# Altium schematic symbol library 素材库.SCHLIB: 37 symbols
Pins are listed as number, name and electrical type; pins without a type are passive.

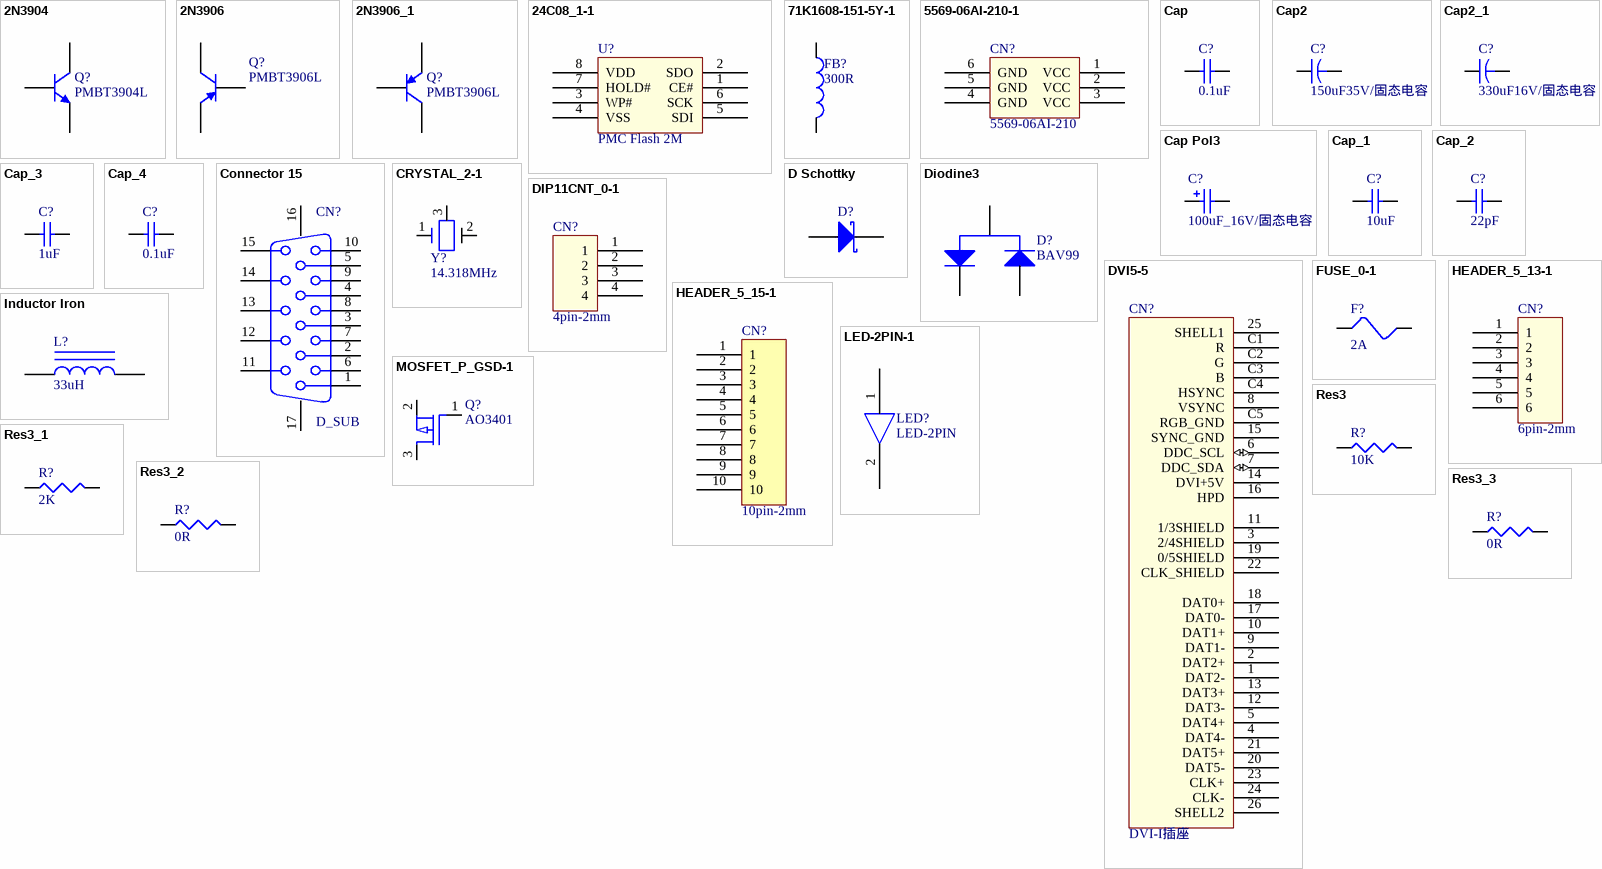
[diagram p0: symbols 2N3904 to Res3_3]

## 2N3904
designator Q?, comment PMBT3904L
NPN General Purpose Amplifier; Published: 8-Jun-2000; LatestRevisionDate: 15-Jan-2003; LatestRevisionNote: PCB Footprint 'BCY-W3/D4.7' replaced; DatasheetVersion: 1997; PackageVersion: Sep-1998; PackageReference: TO-92A; Publisher: Altium Limited; Code_JEDEC: TO-92A; ComponentLink1Description: Manufacturer Link; ComponentLink1URL: http://www.fairchildsemi.com/; ComponentLink2Description: Datasheet; ComponentLink2URL: http://www.fairchildsemi.com/ds/2N%2F2N3904.pdf
footprint Q-SOT23 (Footprint not found)
pins: 1 E, 2 B, 3 C

## 2N3906
designator Q?, comment PMBT3906L
PNP General Purpose Amplifier; Published: 8-Jun-2000; LatestRevisionDate: 15-Jan-2003; LatestRevisionNote: PCB Footprint 'BCY-W3/D4.7' replaced; DatasheetVersion: 1997; PackageVersion: Sep-1998; PackageReference: TO-92A; Publisher: Altium Limited; Code_JEDEC: TO-92A; ComponentLink1Description: Manufacturer Link; ComponentLink1URL: http://www.fairchildsemi.com/; ComponentLink2Description: Datasheet; ComponentLink2URL: http://www.fairchildsemi.com/ds/2N%2F2N3906.pdf
footprint Q-SOT23 (Footprint not found)
pins: 1 E, 2 B, 3 C

## 2N3906_1
designator Q?, comment PMBT3906L
PNP General Purpose Amplifier; Published: 8-Jun-2000; LatestRevisionDate: 15-Jan-2003; LatestRevisionNote: PCB Footprint 'BCY-W3/D4.7' replaced; DatasheetVersion: 1997; PackageVersion: Sep-1998; PackageReference: TO-92A; Publisher: Altium Limited; Code_JEDEC: TO-92A; ComponentLink1Description: Manufacturer Link; ComponentLink1URL: http://www.fairchildsemi.com/; ComponentLink2Description: Datasheet; ComponentLink2URL: http://www.fairchildsemi.com/ds/2N%2F2N3906.pdf
footprint Q-SOT23 (Footprint not found)
pins: 1 E, 2 B, 3 C

## 24C08_1-1
designator U?, comment PMC Flash 2M
footprint U-SOP8/1.3 (Footprint not found)
pins: 1 CE#, 2 SDO, 3 WP#, 4 VSS (power), 5 SDI, 6 SCK, 7 HOLD#, 8 VDD (power)

## 71K1608-151-5Y-1
designator FB?, comment 300R
footprint R-0603
pins: 1, 2

## 5569-06AI-210-1
designator CN?, comment 5569-06AI-210
footprint JP-HW6X4.2X2 (Footprint not found)
pins: 1 VCC, 2 VCC, 3 VCC, 4 GND, 5 GND, 6 GND

## Cap
designator C?, comment 0.1uF
Capacitor; Published: 8-Jun-2000; LatestRevisionDate: 17-Jul-2002; LatestRevisionNote: Re-released for DXP Platform.; PackageReference: RAD-0.3; Publisher: Altium Limited
footprint C-0603
pins: 1, 2

## Cap2
designator C?, comment 150uF35V/固态电容
Capacitor; Published: 23-Sep-2002; PackageReference: CAPR5-4X5; Publisher: Altium Limited
footprint CE-D5.0 (Footprint not found)
pins: 1, 2

## Cap2_1
designator C?, comment 330uF16V/固态电容
Capacitor; Published: 23-Sep-2002; PackageReference: CAPR5-4X5; Publisher: Altium Limited
footprint CE-D3.6 (Footprint not found)
pins: 1, 2

## Cap Pol3
designator C?, comment 100uF_16V/固态电容
Polarized Capacitor (Surface Mount); Published: 8-Jun-2000; LatestRevisionDate: 29-May-2009; LatestRevisionNote: IPC-7351 Footprint Added.; PackageReference: C0805; Publisher: Altium Limited; PackageDescription: Chip Capacitor
footprint CE-D3.6 (Footprint not found)
pins: 1, 2
1 alternate drawing of the same symbol

## Cap_1
designator C?, comment 10uF
Capacitor; Published: 8-Jun-2000; LatestRevisionDate: 17-Jul-2002; LatestRevisionNote: Re-released for DXP Platform.; PackageReference: RAD-0.3; Publisher: Altium Limited
footprint C-0805 (Footprint not found)
pins: 1, 2

## Cap_2
designator C?, comment 22pF
Capacitor; Published: 8-Jun-2000; LatestRevisionDate: 17-Jul-2002; LatestRevisionNote: Re-released for DXP Platform.; PackageReference: RAD-0.3; Publisher: Altium Limited
footprint C-0603
pins: 1, 2

## Cap_3
designator C?, comment 1uF
Capacitor; Published: 8-Jun-2000; LatestRevisionDate: 17-Jul-2002; LatestRevisionNote: Re-released for DXP Platform.; PackageReference: RAD-0.3; Publisher: Altium Limited
footprint C-0603
pins: 1, 2

## Cap_4
designator C?, comment 0.1uF
Capacitor; Published: 8-Jun-2000; LatestRevisionDate: 17-Jul-2002; LatestRevisionNote: Re-released for DXP Platform.; PackageReference: RAD-0.3; Publisher: Altium Limited
footprint C-0603
pins: 1, 2

## Connector 15
designator CN?, comment D_SUB
footprint No footprint defined
footprint DSUB-W15 (Footprint not found)
pins: 1, 2, 3, 4, 5, 6, 7, 8, 9, 10, 11, 12, 13, 14, 15, 16 MH1, 17 MH2

## CRYSTAL_2-1
designator Y?, comment 14.318MHz
footprint Y-DH5 (Footprint not found)
pins: 1, 2, 3

## D Schottky
designator D?, comment 5.6V  (value not drawn)
Schottky Diode; Published: 8-Jun-2000; LatestRevisionDate: 17-Jul-2002; LatestRevisionNote: Re-released for DXP Platform.; PackageReference: SMB; Publisher: Altium Limited; Code_JEDEC: DO-214-AA
footprint DSO-C2/X2.3 (DO-214-AA/SMB; 2 C-Bend Leads; Body 5.3 x 3.6 mm, inc. leads (LxW))
simulation model SKYDIODE (Diode)
signal-integrity model D Schottky
footprint No footprint defined
footprint D-SOD323S (Footprint not found)
pins: 1 A, 2 K

## Diodine3
designator D?, comment BAV99
footprint No footprint defined
footprint Q-SOT23 (Footprint not found)
pins: 1 A2, 2 K1, 3 A1

## DIP11CNT_0-1
designator CN?, comment 4pin-2mm
footprint JP-HW4X2.0 (Footprint not found)
pins: 1, 2, 3, 4

## DVI5-5
designator CN?, comment DVI-I插座
footprint No footprint defined
footprint DVI-W24 (Footprint not found)
pins: 1 DAT2-, 2 DAT2+, 3 2/4SHIELD, 4 DAT4-, 5 DAT4+, 6 DDC_SCL (io), 7 DDC_SDA (io), 8 VSYNC, 9 DAT1-, 10 DAT1+, 11 1/3SHIELD, 12 DAT3-, 13 DAT3+, 14 DVI+5V, 15 SYNC_GND, 16 HPD, 17 DAT0-, 18 DAT0+, 19 0/5SHIELD, 20 DAT5-, 21 DAT5+, 22 CLK_SHIELD, 23 CLK+, 24 CLK-, 25 SHELL1, 26 SHELL2, C1 R, C2 G, C3 B, C4 HSYNC, C5 RGB_GND

## FUSE_0-1
designator F?, comment 2A
footprint R-1206 (Footprint not found)
pins: 1, 2

## HEADER_5_13-1
designator CN?, comment 6pin-2mm
footprint JP-HW6X2.0 (Footprint not found)
pins: 1, 2, 3, 4, 5, 6

## HEADER_5_15-1
designator CN?, comment 10pin-2mm
footprint JP-HW10X2.0 (Footprint not found)
pins: 1, 2, 3, 4, 5, 6, 7, 8, 9, 10

## Inductor Iron
designator L?, comment 33uH
Magnetic-Core Inductor; Published: 24-Mar-1999; LatestRevisionDate: 17-Jul-2002; LatestRevisionNote: Re-released for DXP Platform.; PackageReference: AXIAL-0.9; Publisher: Altium Limited
footprint AXIAL-0.9 (Axial Device, Thru-Hole; 2 Leads; 0.9 in Pin Spacing)
simulation model INDUCTOR (Inductor)
signal-integrity model Inductor Iron
footprint LC120-50-1.0 (Footprint not found)
pins: 1, 2

## LED-2PIN-1
designator LED?, comment LED-2PIN
footprint LED-H2X2.54 (Footprint not found)
pins: 1, 2

## MOSFET_P_GSD-1
designator Q?, comment AO3401
footprint Q-SOT23 (Footprint not found)
pins: 1 G, 2 S, 3 D

## Res3
designator R?, comment 10K
Resistor; Published: 8-Jun-2000; LatestRevisionDate: 29-May-2009; LatestRevisionNote: IPC-7351 Footprint Added.; PackageReference: J1-0603; Publisher: Altium Limited; PackageDescription: Chip Resistor
footprint R-0402 (Footprint not found)
pins: 1, 2

## Res3_1
designator R?, comment 2K
Resistor; Published: 8-Jun-2000; LatestRevisionDate: 29-May-2009; LatestRevisionNote: IPC-7351 Footprint Added.; PackageReference: J1-0603; Publisher: Altium Limited; PackageDescription: Chip Resistor
footprint R-0402
pins: 1, 2

## Res3_2
designator R?, comment 0R
Resistor; Published: 8-Jun-2000; LatestRevisionDate: 29-May-2009; LatestRevisionNote: IPC-7351 Footprint Added.; PackageReference: J1-0603; Publisher: Altium Limited; PackageDescription: Chip Resistor
signal-integrity model Res
footprint R-0805
pins: 1, 2

## Res3_3
designator R?, comment 0R
Resistor; Published: 8-Jun-2000; LatestRevisionDate: 29-May-2009; LatestRevisionNote: IPC-7351 Footprint Added.; PackageReference: J1-0603; Publisher: Altium Limited; PackageDescription: Chip Resistor
footprint R-1206 (Footprint not found)
pins: 1, 2

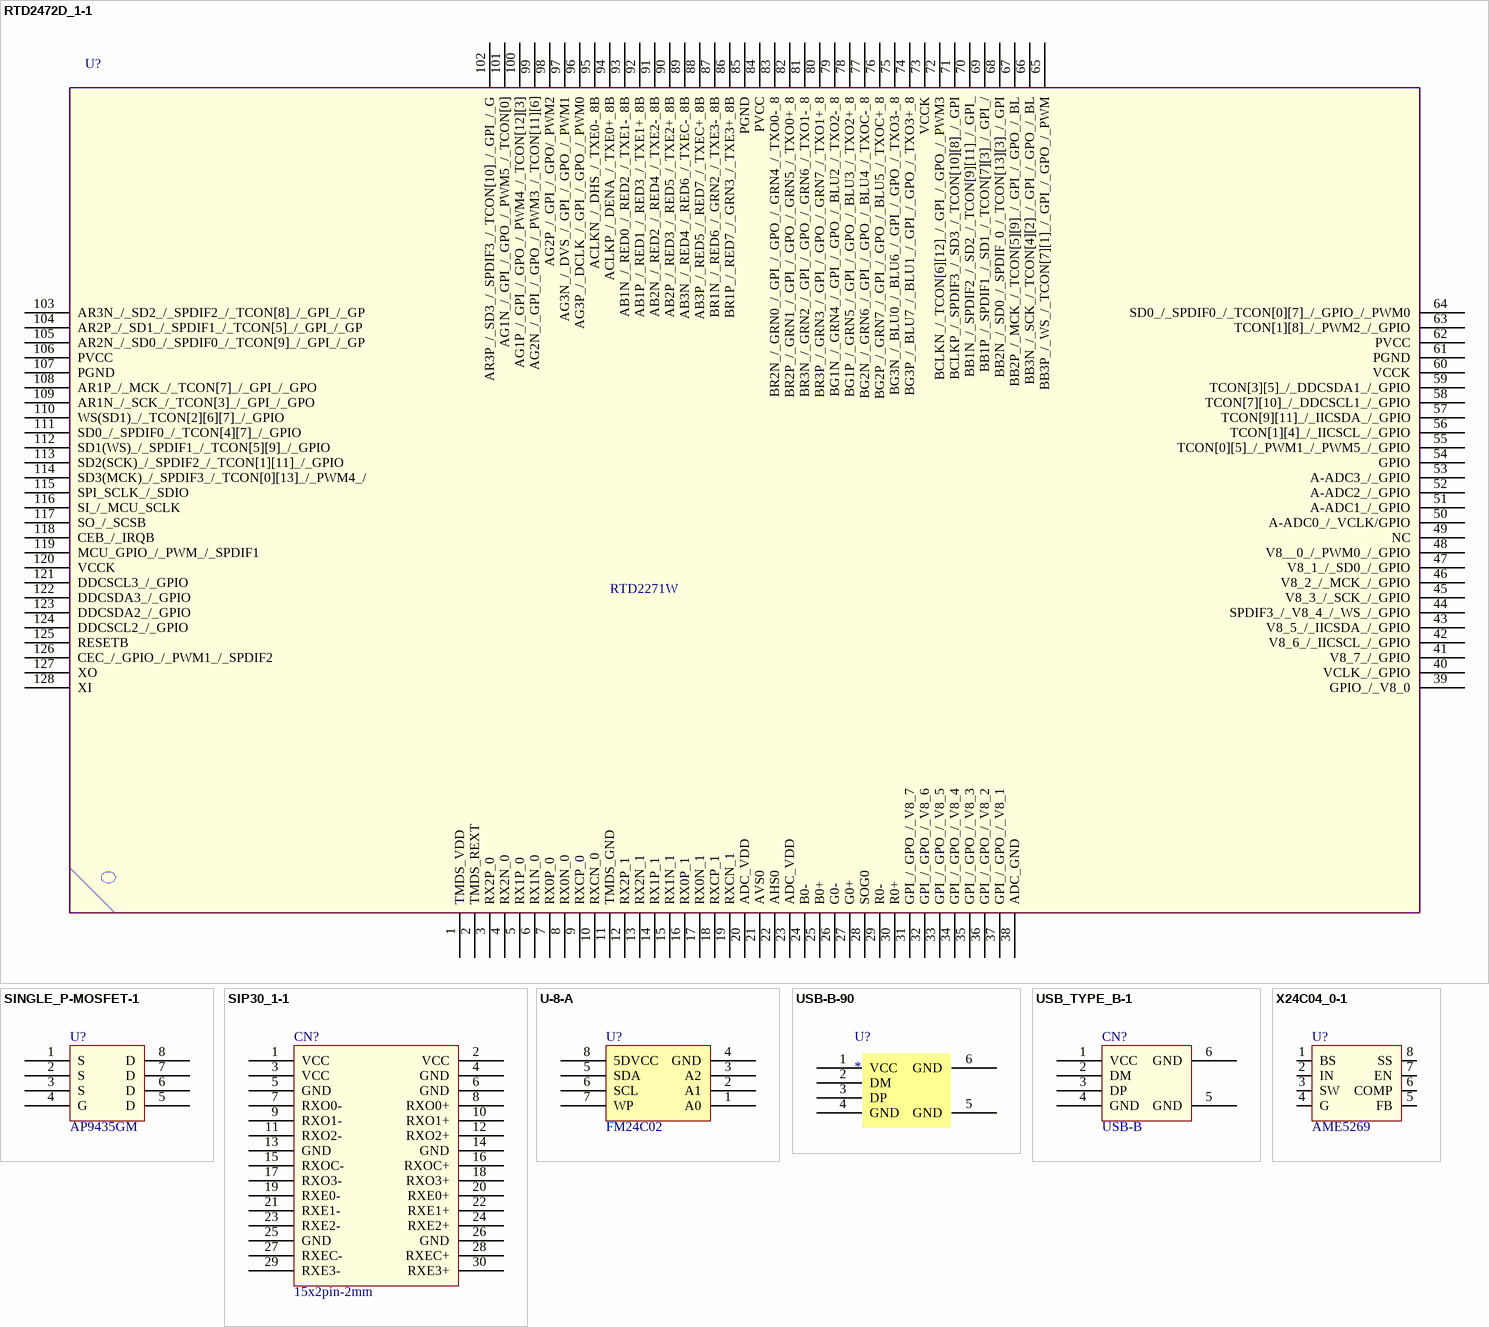
[diagram p1: symbols RTD2472D_1-1 to X24C04_0-1]

## RTD2472D_1-1
designator U?, comment RTD2271W
footprint U-QFP128/0.5 (Footprint not found)
pins: 1 TMDS_VDD (power), 2 TMDS_REXT, 3 RX2P_0, 4 RX2N_0, 5 RX1P_0, 6 RX1N_0, 7 RX0P_0, 8 RX0N_0, 9 RXCP_0, 10 RXCN_0, 11 TMDS_GND, 12 RX2P_1, 13 RX2N_1, 14 RX1P_1, 15 RX1N_1, 16 RX0P_1, 17 RX0N_1, 18 RXCP_1, 19 RXCN_1, 20 ADC_VDD (power), 21 AVS0, 22 AHS0, 23 ADC_VDD (power), 24 B0-, 25 B0+, 26 G0-, 27 G0+, 28 SOG0, 29 R0-, 30 R0+, 31 GPI_/_GPO_/_V8_7, 32 GPI_/_GPO_/_V8_6, 33 GPI_/_GPO_/_V8_5, 34 GPI_/_GPO_/_V8_4, 35 GPI_/_GPO_/_V8_3, 36 GPI_/_GPO_/_V8_2, 37 GPI_/_GPO_/_V8_1, 38 ADC_GND, 39 GPIO_/_V8_0, 40 VCLK_/_GPIO, 41 V8_7_/_GPIO, 42 V8_6_/_IICSCL_/_GPIO, 43 V8_5_/_IICSDA_/_GPIO, 44 SPDIF3_/_V8_4_/_WS_/_GPIO, 45 V8_3_/_SCK_/_GPIO, 46 V8_2_/_MCK_/_GPIO, 47 V8_1_/_SD0_/_GPIO, 48 V8__0_/_PWM0_/_GPIO, 49 NC, 50 A-ADC0_/_VCLK/GPIO, 51 A-ADC1_/_GPIO, 52 A-ADC2_/_GPIO, 53 A-ADC3_/_GPIO, 54 GPIO, 55 TCON[0][5]_/_PWM1_/_PWM5_/_GPIO, 56 TCON[1][4]_/_IICSCL_/_GPIO, 57 TCON[9][11]_/_IICSDA_/_GPIO, 58 TCON[7][10]_/_DDCSCL1_/_GPIO, 59 TCON[3][5]_/_DDCSDA1_/_GPIO, 60 VCCK (power), 61 PGND, 62 PVCC (power), 63 TCON[1][8]_/_PWM2_/_GPIO, 64 SD0_/_SPDIF0_/_TCON[0][7]_/_GPIO_/_PWM0, 65 BB3P_/_WS_/_TCON[7][1]_/_GPI_/_GPO_/_PWM, 66 BB3N_/_SCK_/_TCON[4][2]_/_GPI_/_GPO_/_BL, 67 BB2P_/_MCK_/_TCON[5][9]_/_GPI_/_GPO_/_BL, 68 BB2N_/_SD0_/_SPDIF_0_/_TCON[13][3]_/_GPI, 69 BB1P_/_SPDIF1_/_SD1_/_TCON[7][3]_/_GPI_/, 70 BB1N_/_SPDIF2_/_SD2_/_TCON[9][11]_/_GPI_, 71 BCLKP_/_SPDIF3_/_SD3_/_TCON[10][8]_/_GPI, 72 BCLKN_/_TCON[6][12]_/_GPI_/_GPO_/_PWM3, 73 VCCK (power), 74 BG3P_/_BLU7_/_BLU1_/_GPI_/_GPO_/_TXO3+_8, 75 BG3N_/_BLU0_/_BLU6_/_GPI_/_GPO_/_TXO3-_8, 76 BG2P_/_GRN7_/_GPI_/_GPO_/_BLU5_/_TXOC+_8, 77 BG2N_/_GRN6_/_GPI_/_GPO_/_BLU4_/_TXOC-_8, 78 BG1P_/_GRN5_/_GPI_/_GPO_/_BLU3_/_TXO2+_8, 79 BG1N_/_GRN4_/_GPI_/_GPO_/_BLU2_/_TXO2-_8, 80 BR3P_/_GRN3_/_GPI_/_GPO_/_GRN7_/_TXO1+_8, 81 BR3N_/_GRN2_/_GPI_/_GPO_/_GRN6_/_TXO1-_8, 82 BR2P_/_GRN1_/_GPI_/_GPO_/_GRN5_/_TXO0+_8, 83 BR2N_/_GRN0_/_GPI_/_GPO_/_GRN4_/_TXO0-_8, 84 PVCC (power), 85 PGND, 86 BR1P_/_RED7_/_GRN3_/_TXE3+_8B, 87 BR1N_/_RED6_/_GRN2_/_TXE3-_8B, 88 AB3P_/_RED5_/_RED7_/_TXEC+_8B, 89 AB3N_/_RED4_/_RED6_/_TXEC-_8B, 90 AB2P_/_RED3_/_RED5_/_TXE2+_8B, 91 AB2N_/_RED2_/_RED4_/_TXE2-_8B, 92 AB1P_/_RED1_/_RED3_/_TXE1+_8B, 93 AB1N_/_RED0_/_RED2_/_TXE1-_8B, 94 ACLKP_/_DENA_/_TXE0+_8B, 95 ACLKN_/_DHS_/_TXE0-_8B, 96 AG3P_/_DCLK_/_GPI_/_GPO_/_PWM0, 97 AG3N_/_DVS_/_GPI_/_GPO_/_PWM1, 98 AG2P_/_GPI_/_GPO/_PWM2, 99 AG2N_/_GPI_/_GPO_/_PWM3_/_TCON[11][6], 100 AG1P_/_GPI_/_GPO_/_PWM4_/_TCON[12][3], 101 AG1N_/_GPI_/_GPO_/_PWM5_/_TCON[0], 102 AR3P_/_SD3_/_SPDIF3_/_TCON[10]_/_GPI_/_G, 103 AR3N_/_SD2_/_SPDIF2_/_TCON[8]_/_GPI_/_GP, 104 AR2P_/_SD1_/_SPDIF1_/_TCON[5]_/_GPI_/_GP, 105 AR2N_/_SD0_/_SPDIF0_/_TCON[9]_/_GPI_/_GP, 106 PVCC (power), 107 PGND, 108 AR1P_/_MCK_/_TCON[7]_/_GPI_/_GPO, 109 AR1N_/_SCK_/_TCON[3]_/_GPI_/_GPO, 110 WS(SD1)_/_TCON[2][6][7]_/_GPIO, 111 SD0_/_SPDIF0_/_TCON[4][7]_/_GPIO, 112 SD1(WS)_/_SPDIF1_/_TCON[5][9]_/_GPIO, 113 SD2(SCK)_/_SPDIF2_/_TCON[1][11]_/_GPIO, 114 SD3(MCK)_/_SPDIF3_/_TCON[0][13]_/_PWM4_/, 115 SPI_SCLK_/_SDIO, 116 SI_/_MCU_SCLK, 117 SO_/_SCSB, 118 CEB_/_IRQB, 119 MCU_GPIO_/_PWM_/_SPDIF1, 120 VCCK (power), 121 DDCSCL3_/_GPIO, 122 DDCSDA3_/_GPIO, 123 DDCSDA2_/_GPIO, 124 DDCSCL2_/_GPIO, 125 RESETB, 126 CEC_/_GPIO_/_PWM1_/_SPDIF2, 127 XO, 128 XI

## SINGLE_P-MOSFET-1
designator U?, comment AP9435GM
footprint U-SOP8/1.3 (Footprint not found)
pins: 1 S, 2 S, 3 S, 4 G, 5 D, 6 D, 7 D, 8 D

## SIP30_1-1
designator CN?, comment 15x2pin-2mm
footprint JP-H15X2.0X2 (Footprint not found)
pins: 1 VCC, 2 VCC, 3 VCC, 4 GND, 5 GND, 6 GND, 7 RXO0-, 8 RXO0+, 9 RXO1-, 10 RXO1+, 11 RXO2-, 12 RXO2+, 13 GND, 14 GND, 15 RXOC-, 16 RXOC+, 17 RXO3-, 18 RXO3+, 19 RXE0-, 20 RXE0+, 21 RXE1-, 22 RXE1+, 23 RXE2-, 24 RXE2+, 25 GND, 26 GND, 27 RXEC-, 28 RXEC+, 29 RXE3-, 30 RXE3+

## U-8-A
designator U?, comment FM24C02
footprint U-SOP8/1.3 (Footprint not found)
pins: 1 A0, 2 A1, 3 A2, 4 GND, 5 SDA, 6 SCL, 7 WP, 8 5DVCC

## USB-B-90
designator U?
pins: 1 VCC (oc), 2 DM (oc), 3 DP (oc), 4 GND (oc), 5 GND (oc), 6 GND (oc)

## USB_TYPE_B-1
designator CN?, comment USB-B
footprint USB-6PIN-2 (Footprint not found)
pins: 1 VCC, 2 DM, 3 DP, 4 GND, 5 GND, 6 GND

## X24C04_0-1
designator U?, comment AME5269
footprint U-SOP8/1.3 (Footprint not found)
pins: 1 BS, 2 IN, 3 SW, 4 G (power), 5 FB, 6 COMP, 7 EN, 8 SS